# Altium footprint library GeekIMU.PcbLib: 14 footprints
Each footprint in its own frame and in the unit in brackets; x right, y up, seen from the top. Pads: shape width x height; smd on the part's side, far side on the other; paste and mask are expansions set on the pad; w line width, h text height; cw(c..) or ccw(c..) is an arc to the next point about the centre after c.
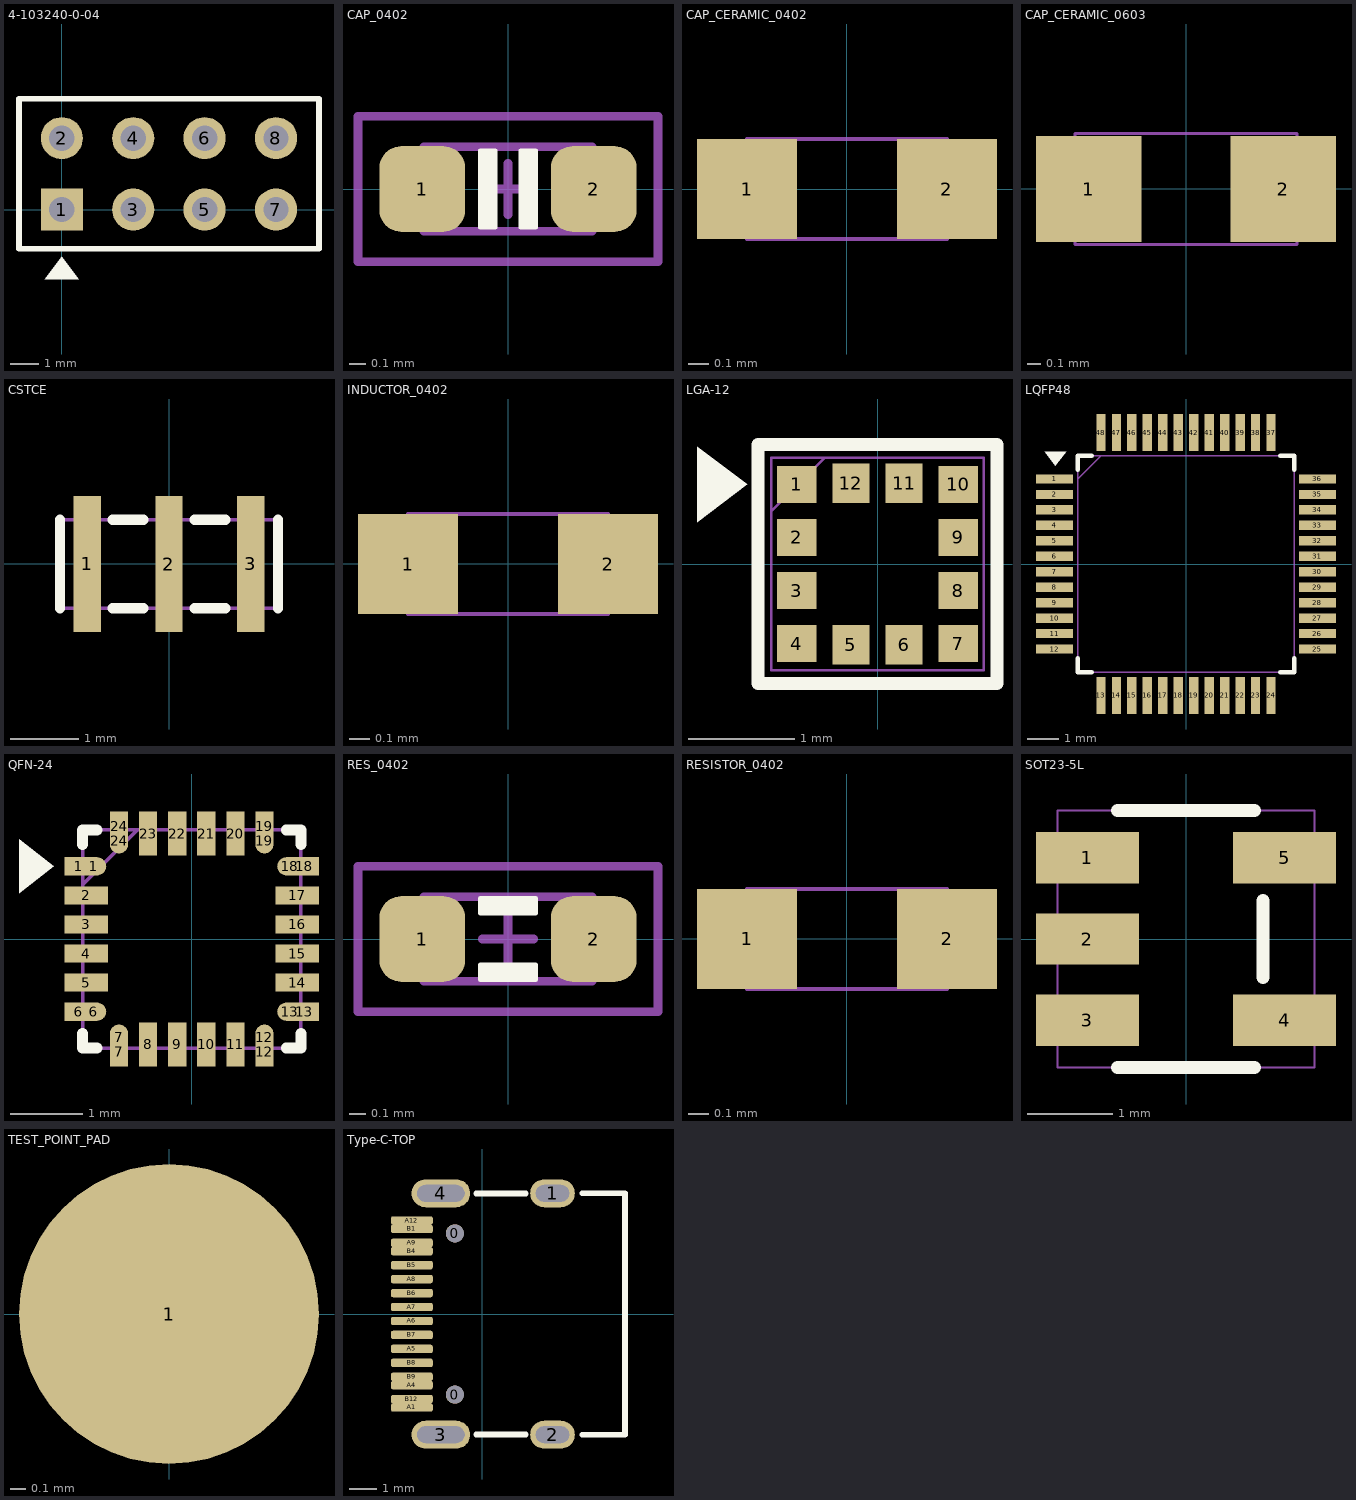
[diagram p0: the footprints below, top view; thin cyan lines are the x and y axes]

## 4-103240-0-04 [mm]
pads (8):
  rect 1.5x1.5 hole 0.9 mask+0.076: 1(0,0)
  round 1.5 hole 0.9 mask+0.076: 2(0,2.54) 3(2.54,0) 4(2.54,2.54) 5(5.08,0) 6(5.08,2.54) 7(7.62,0) 8(7.62,2.54)
Top Overlay:
  region: 0,-1.675 0.6,-2.475 -0.6,-2.475
  lines w0.203: -1.524,-1.4 -1.524,3.937 9.15,3.937 9.15,-1.4 -1.524,-1.4

## CAP_0402 [mil]
height 21.65
pads (2):
  rrect50% 20x20 smd: 1(-20,0) 2(20,0)
Top Overlay:
  region: 6.5,-9 3,-9 3,9 6.5,9
  region: -6.5,9 -3,9 -3,-9 -6.5,-9
  lines w1: -6.5,-9 -6.5,9 -3,9 -3,-9 -6.5,-9 ; 3,-9 6.5,-9 6.5,9 3,9 3,-9
Mechanical 13:
  lines w2: -6,0 6,0 ; 0,-6 0,6 ; -19.69,-9.84 19.68,-9.84 19.68,9.84 -19.69,9.84 -19.69,-9.84
Mechanical 14:
  lines w2: -35,-17 35,-17 35,17 -35,17 -35,-17
3D body "CAPC1005X05L.step": height 19.68, standoff 0, extent -19.68,-9.84 19.69,9.85

## CAP_CERAMIC_0402 [mm]
pads (2):
  rect 0.5x0.5 smd mask+0.051: 1(-0.5,0) 2(0.5,0)
Mechanical 1:
  lines w0.02: -0.5,-0.25 0.5,-0.25 0.5,0.25 -0.5,0.25 -0.5,-0.25
3D body "CAPC1005X56N EIA 0402.step": height 0.56, standoff 0, extent -0.5,-0.25 0.5,0.25

## CAP_CERAMIC_0603 [mil]
pads (2):
  rect 30x30 smd mask+2: 1(-27.56,0) 2(27.56,0)
Mechanical 1:
  lines w0.79: -31.5,-15.75 -31.5,15.75 31.5,15.75 31.5,-15.75 -31.5,-15.75
3D body "CAPC1608X55N EIA 0603.step": height 21.65, standoff 0, extent -31.5,-15.75 31.5,15.75

## CSTCE [mm]
pads (3):
  rect 0.4x2 smd mask+0.064: 1(-1.2,0) 2(0,0) 3(1.2,0)
Top Overlay:
  lines w0.15: -1.6,-0.65 -1.6,0.65 ; -0.825,-0.65 -0.375,-0.65 ; -0.825,0.65 -0.375,0.65 ; 0.375,-0.65 0.825,-0.65 ; 0.375,0.65 0.825,0.65 ; 1.6,-0.65 1.6,0.65
Mechanical 1:
  lines w0.05: -1.6,-0.65 1.6,-0.65 1.6,0.65 -1.6,0.65 -1.6,-0.65
3D body "User Library-CSTCE.step": height 0.7, standoff 0, extent -1.6,-0.65 1.6,0.65

## INDUCTOR_0402 [mm]
pads (2):
  rect 0.5x0.5 smd mask+0.051: 1(-0.5,0) 2(0.5,0)
Mechanical 1:
  lines w0.02: -0.5,-0.25 -0.5,0.25 0.5,0.25 0.5,-0.25 -0.5,-0.25
3D body "INDC1005X60N EIA 0402.step": height 0.6, standoff 0, extent -0.5,-0.25 0.5,0.25

## LGA-12 [mm]
pads (12):
  rect 0.375x0.35 smd mask+0.051: 1(-0.76,0.75) 2(-0.76,0.25) 3(-0.76,-0.25) 4(-0.76,-0.75) 7(0.76,-0.75) 8(0.76,-0.25) 9(0.76,0.25) 10(0.76,0.75)
  rect 0.35x0.375 smd mask+0.051: 5(-0.25,-0.76) 6(0.25,-0.76) 11(0.25,0.76) 12(-0.25,0.76)
Top Overlay:
  region: -1.225,0.75 -1.7,1.106 -1.7,0.394
  lines w0.125: -1.125,-1.125 1.125,-1.125 1.125,1.125 -1.125,1.125 -1.125,-1.125
Mechanical 1:
  lines w0.025: -1,0.5 -0.5,1 ; -1,-1 1,-1 1,1 -1,1 -1,-1
3D body: height 1, standoff 0, extent -1,-1 1,1

## LQFP48 [mm]
pads (48):
  rect 1.2x0.3 smd mask+0.064: 1(-4.25,2.75) 2(-4.25,2.25) 3(-4.25,1.75) 4(-4.25,1.25) 5(-4.25,0.75) 6(-4.25,0.25) 7(-4.25,-0.25) 8(-4.25,-0.75) 9(-4.25,-1.25) 10(-4.25,-1.75) 11(-4.25,-2.25) 12(-4.25,-2.75) 25(4.25,-2.75) 26(4.25,-2.25) 27(4.25,-1.75) 28(4.25,-1.25) 29(4.25,-0.75) 30(4.25,-0.25) 31(4.25,0.25) 32(4.25,0.75) 33(4.25,1.25) 34(4.25,1.75) 35(4.25,2.25) 36(4.25,2.75)
  rect 0.3x1.2 smd mask+0.064: 13(-2.75,-4.25) 14(-2.25,-4.25) 15(-1.75,-4.25) 16(-1.25,-4.25) 17(-0.75,-4.25) 18(-0.25,-4.25) 19(0.25,-4.25) 20(0.75,-4.25) 21(1.25,-4.25) 22(1.75,-4.25) 23(2.25,-4.25) 24(2.75,-4.25) 37(2.75,4.25) 38(2.25,4.25) 39(1.75,4.25) 40(1.25,4.25) 41(0.75,4.25) 42(0.25,4.25) 43(-0.25,4.25) 44(-0.75,4.25) 45(-1.25,4.25) 46(-1.75,4.25) 47(-2.25,4.25) 48(-2.75,4.25)
Top Overlay:
  region: -4.225,3.175 -4.575,3.625 -3.875,3.625
  lines w0.15: -3.5,-3.05 -3.5,-3.5 -3.05,-3.5 ; -3.5,3.05 -3.5,3.5 -3.05,3.5 ; 3.05,-3.5 3.5,-3.5 3.5,-3.05 ; 3.05,3.5 3.5,3.5 3.5,3.05
Mechanical 1:
  lines w0.05: -3.5,2.75 -2.75,3.5 ; -3.5,-3.5 3.5,-3.5 3.5,3.5 -3.5,3.5 -3.5,-3.5
3D body "User Library-LQFP48.step": height 1.5, standoff 0, extent -4.5,-4.5 4.5,4.5

## QFN-24 [mm]
pads (32):
  rect 0.4x0.25 smd mask+0.05: 1(-1.55,1) 6(-1.55,-1) 13(1.55,-1) 18(1.55,1)
  rrect100% 0.35x0.25 smd mask+0.05: 1(-1.35,1) 6(-1.35,-1) 13(1.35,-1) 18(1.35,1)
  rect 0.6x0.25 smd mask+0.05: 2(-1.45,0.6) 3(-1.45,0.2) 4(-1.45,-0.2) 5(-1.45,-0.6) 14(1.45,-0.6) 15(1.45,-0.2) 16(1.45,0.2) 17(1.45,0.6)
  rect 0.25x0.4 smd mask+0.05: 7(-1,-1.55) 12(1,-1.55) 19(1,1.55) 24(-1,1.55)
  rrect100% 0.25x0.35 smd mask+0.05: 7(-1,-1.35) 12(1,-1.35) 19(1,1.35) 24(-1,1.35)
  rect 0.25x0.6 smd mask+0.05: 8(-0.6,-1.45) 9(-0.2,-1.45) 10(0.2,-1.45) 11(0.6,-1.45) 20(0.6,1.45) 21(0.2,1.45) 22(-0.2,1.45) 23(-0.6,1.45)
Top Overlay:
  region: -1.9,1 -2.375,0.631 -2.375,1.369
  lines w0.15: -1.5,-1.3 -1.5,-1.5 -1.3,-1.5 ; -1.5,1.3 -1.5,1.5 -1.3,1.5 ; 1.3,-1.5 1.5,-1.5 1.5,-1.3 ; 1.3,1.5 1.5,1.5 1.5,1.3
Mechanical 1:
  lines w0.05: -1.5,0.75 -0.75,1.5 ; -1.5,-1.5 -1.5,1.5 1.5,1.5 1.5,-1.5 -1.5,-1.5
3D body: height 0.9, standoff 0, extent -1.5,-1.5 1.5,1.5

## RES_0402 [mil]
height 13.78
pads (2):
  rrect50% 20x20 smd: 1(-20,0) 2(20,0)
Top Overlay:
  region: -6.5,9.5 6.5,9.5 6.5,6 -6.5,6
  region: 6.5,-9.5 -6.5,-9.5 -6.5,-6 6.5,-6
  lines w1: -6.5,-9.5 -6.5,-6 6.5,-6 6.5,-9.5 -6.5,-9.5 ; -6.5,6 6.5,6 6.5,9.5 -6.5,9.5 -6.5,6
Mechanical 13:
  lines w2: -6,0 6,0 ; 0,-6 0,6 ; -19.69,-9.84 19.68,-9.84 19.68,9.84 -19.69,9.84 -19.69,-9.84
Mechanical 14:
  lines w2: -35,-17 -35,17 35,17 35,-17 -35,-17
3D body "RESC1005X03L.step": height 13.78, standoff 0, extent -19.68,-9.84 19.69,9.85

## RESISTOR_0402 [mm]
pads (2):
  rect 0.5x0.5 smd mask+0.051: 1(-0.5,0) 2(0.5,0)
Mechanical 1:
  lines w0.02: -0.5,-0.25 0.5,-0.25 0.5,0.25 -0.5,0.25 -0.5,-0.25
3D body "RESC1005X38N EIA 0402.step": height 0.38, standoff 0, extent -0.5,-0.25 0.5,0.25

## SOT23-5L [mm]
pads (5):
  rect 1.2x0.6 smd mask+0.051: 1(-1.15,0.95) 2(-1.15,0) 3(-1.15,-0.95) 4(1.15,-0.95) 5(1.15,0.95)
Top Overlay:
  lines w0.15: -0.8,-1.5 0.8,-1.5 ; -0.8,1.5 0.8,1.5 ; 0.9,-0.45 0.9,0.45
Mechanical 1:
  lines w0.025: -1.5,-1.5 -1.5,1.5 1.5,1.5 1.5,-1.5 -1.5,-1.5
3D body "User Library-SOT23-5-1.step": height 1.3, standoff 0, extent -1.5,-1.5 1.5,1.5

## TEST_POINT_PAD [mm]
pads (1):
  round 2 smd mask+0.064: 1(0,0)

## Type-C-TOP [mm]
height 4.3
pads (22):
  round 0.65 hole 0.65: 0(-0.98,-2.89) 0(-0.98,2.89)
  oval 1.6x1 hole 0.6 slot 1.2 at 0 deg: 1(2.52,4.325) 2(2.52,-4.325)
  oval 2.1x1 hole 0.6 slot 1.7 at 0 deg: 3(-1.48,-4.325) 4(-1.48,4.325)
  rrect50% 1.5x0.3 smd: A1(-2.52,-3.35) A4(-2.52,-2.55) A5(-2.52,-1.25) A6(-2.52,-0.25) A7(-2.52,0.25) A8(-2.52,1.25) A9(-2.52,2.55) A12(-2.52,3.35) B1(-2.52,3.05) B4(-2.52,2.25) B5(-2.52,1.75) B6(-2.52,0.75) B7(-2.52,-0.75) B8(-2.52,-1.75) B9(-2.52,-2.25) B12(-2.52,-3.05)
Top Overlay:
  lines w0.203: -0.218,-4.318 1.56,-4.318 ; -0.218,4.318 1.56,4.318 ; 3.592,-4.325 5.12,-4.325 5.12,4.325 3.592,4.325
3D body "1.step": height 3.26, standoff -1, extent -2.568,-4.475 5.182,4.475